# EAGLE library part 690207102472 (library WR-MM)
WR-MM Transition Connector KIND PROPERTIES: Pitch 2.54 mm Gender:Transition MATERIAL PROPERTIES: Insulator Material:PBT Insulator Flammability Rating UL94 V-0 Insulator Color:Red Contact Material :Phosphor Bronze Contact Plating :Mat Tin over Nickel Contact Type: Stamped GENERAL PROPERTIES: Operating Temperature:-40 °C up to +105 °C Compliance Lead free / RoHS ELECTRICAL PROPERTIES: IR 1:1 A Working Voltage 100 V (AC) Withstanding Voltage:500 V (AC) Contact Resistance: 10 mΩ Insulation Resistance:1000 MΩ PACKAGING PROPERTIES: cULus Approval:E323964 Packaging :Tube <https://katalog.we-online.com/media/images/v2/o33156v209%20Family_WR-MM_69020710xx72.jpg> Details see: https://katalog.we-online.com/en/em/MM_TRANSITION_CONNECTOR_69020710XX72 Updated by Yingchun,Shan 2019-10-28 2019 (C) Würth Elektronik
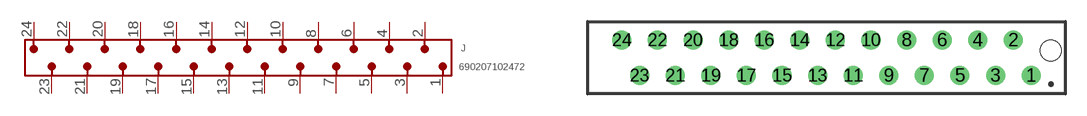
[diagram p63: symbol with the pads of 690207102472; footprint 690207102472]

Designator prefix J

## 690207102472 (CONTACT-RESISTANCE: 10mOhm; DATASHEET-URL: https://www.we-online.com/catalog/datasheet/690207102472.pdf; GENDER: Transition; IR: 1A; L: 33.91mm; PACKAGING: Tube; PART-NUMBER: 690207102472; PINS: 24; PITCH: 2.54; TYPE: Straight; VALUE: 690207102472; WORKING-VOLTAGE: 100V(AC))  [690207102472]
1  1  pas
2  2  pas
3  3  pas
4  4  pas
5  5  pas
6  6  pas
7  7  pas
8  8  pas
9  9  pas
10  10  pas
11  11  pas
12  12  pas
13  13  pas
14  14  pas
15  15  pas
16  16  pas
17  17  pas
18  18  pas
19  19  pas
20  20  pas
21  21  pas
22  22  pas
23  23  pas
24  24  pas

## Footprint 690207102472 (pad centres in mm)
WR-MM Transition Connector, 24 Pins
drill 0.85: 1 14.605,-1.27; 2 13.335,1.27; 3 12.065,-1.27; 4 10.795,1.27; 5 9.525,-1.27; 6 8.255,1.27; 7 6.985,-1.27; 8 5.715,1.27; 9 4.445,-1.27; 10 3.175,1.27; 11 1.905,-1.27; 12 0.635,1.27; 13 -0.635,-1.27; 14 -1.905,1.27; 15 -3.175,-1.27; 16 -4.445,1.27; 17 -5.715,-1.27; 18 -6.985,1.27; 19 -8.255,-1.27; 20 -9.525,1.27; 21 -10.795,-1.27; 22 -12.065,1.27; 23 -13.335,-1.27; 24 -14.605,1.27
hole 1.5 at 16.005,0.53